# Altium schematic symbol library TAG_CONNECT_TC2030.SchLib: 1 symbol
Pins are listed as number, name and electrical type; pins without a type are passive.

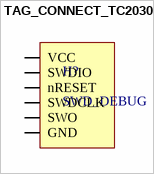
[diagram p0: symbol TAG_CONNECT_TC2030]

## TAG_CONNECT_TC2030
designator H?, comment SWD_DEBUG
TC2030-IDC; Supplier 1: Digi-Key; Supplier Part Number 1: TC2030-IDC-ND
footprint TAG_CONNECT_TC2030 (TC2030-IDC)
pins: 1 VCC, 2 SWDIO, 3 nRESET, 4 SWDCLK, 5 GND, 6 SWO